# EAGLE library part TNY375-380 (library power_integrations)
TinySwitch-PK incorporates a 700 V MOSFET, oscillator, highvoltage switched current source, current limit (user selectable), and thermal shutdown circuitry. A unique peak mode feature boosts current limit and frequency for peak load conditions. The boosted current limit provides the peak output power while the increased peak mode frequency ensures the transformer can be sized for continuous load conditions rather than peak power demands.
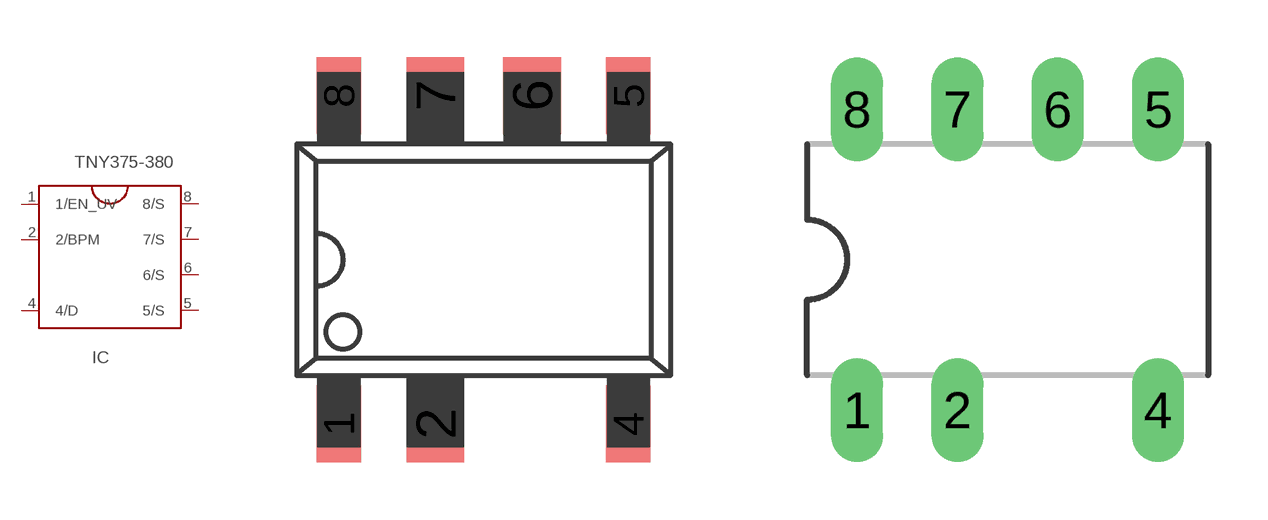
[diagram p17: symbol with the pads of DIP8C_SMD(G_PACKAGE); footprints DIP8C_SMD(G_PACKAGE), PDIP-8C(P-PACKAGE)]

Designator prefix IC

## TNY375-380  [DIP8C_SMD(G_PACKAGE)]
1  1/EN_UV
2  2/BPM
4  4/D
5  5/S
6  6/S
7  7/S
8  8/S

## TNY375-380PDIP-8C  [PDIP-8C(P-PACKAGE)]
Pads as for DIP8C_SMD(G_PACKAGE)

## TNY375-380SO8-C  [SO8-C(D_PACKAGE)]
Pads as for DIP8C_SMD(G_PACKAGE)

## Footprint DIP8C_SMD(G_PACKAGE) (pad centres in mm)
smd 1.168 x 2.032: 1 -3.81,-4.32; 4 3.81,-4.32; 5 3.81,4.32; 8 -3.81,4.32
smd 1.524 x 2.032: 2 -1.27,-4.32; 6 1.27,4.32; 7 -1.27,4.32

## Footprint PDIP-8C(P-PACKAGE) (pad centres in mm)
Dual In Line Package
drill 0.813 long: 1 -3.81,-3.81; 2 -1.27,-3.81; 4 3.81,-3.81; 5 3.81,3.81; 6 1.27,3.81; 7 -1.27,3.81; 8 -3.81,3.81

## Footprint SO8-C(D_PACKAGE) (pad centres in mm)
SMALL OUTLINE INTEGRATED CIRCUIT body 3.9 mm/JEDEC MS-012AA
smd 0.6 x 2.2: 1 -1.905,-2.6; 2 -0.635,-2.6; 4 1.905,-2.6; 5 1.905,2.6; 6 0.635,2.6; 7 -0.635,2.6; 8 -1.905,2.6